# Altium footprint library SHEET25.PcbLib: 48 footprints (part 2 of 3)
Each footprint in its own frame and in the unit in brackets; x right, y up, seen from the top. Pads: shape width x height; smd on the part's side, far side on the other; paste and mask are expansions set on the pad; w line width, h text height; cw(c..) or ccw(c..) is an arc to the next point about the centre after c.
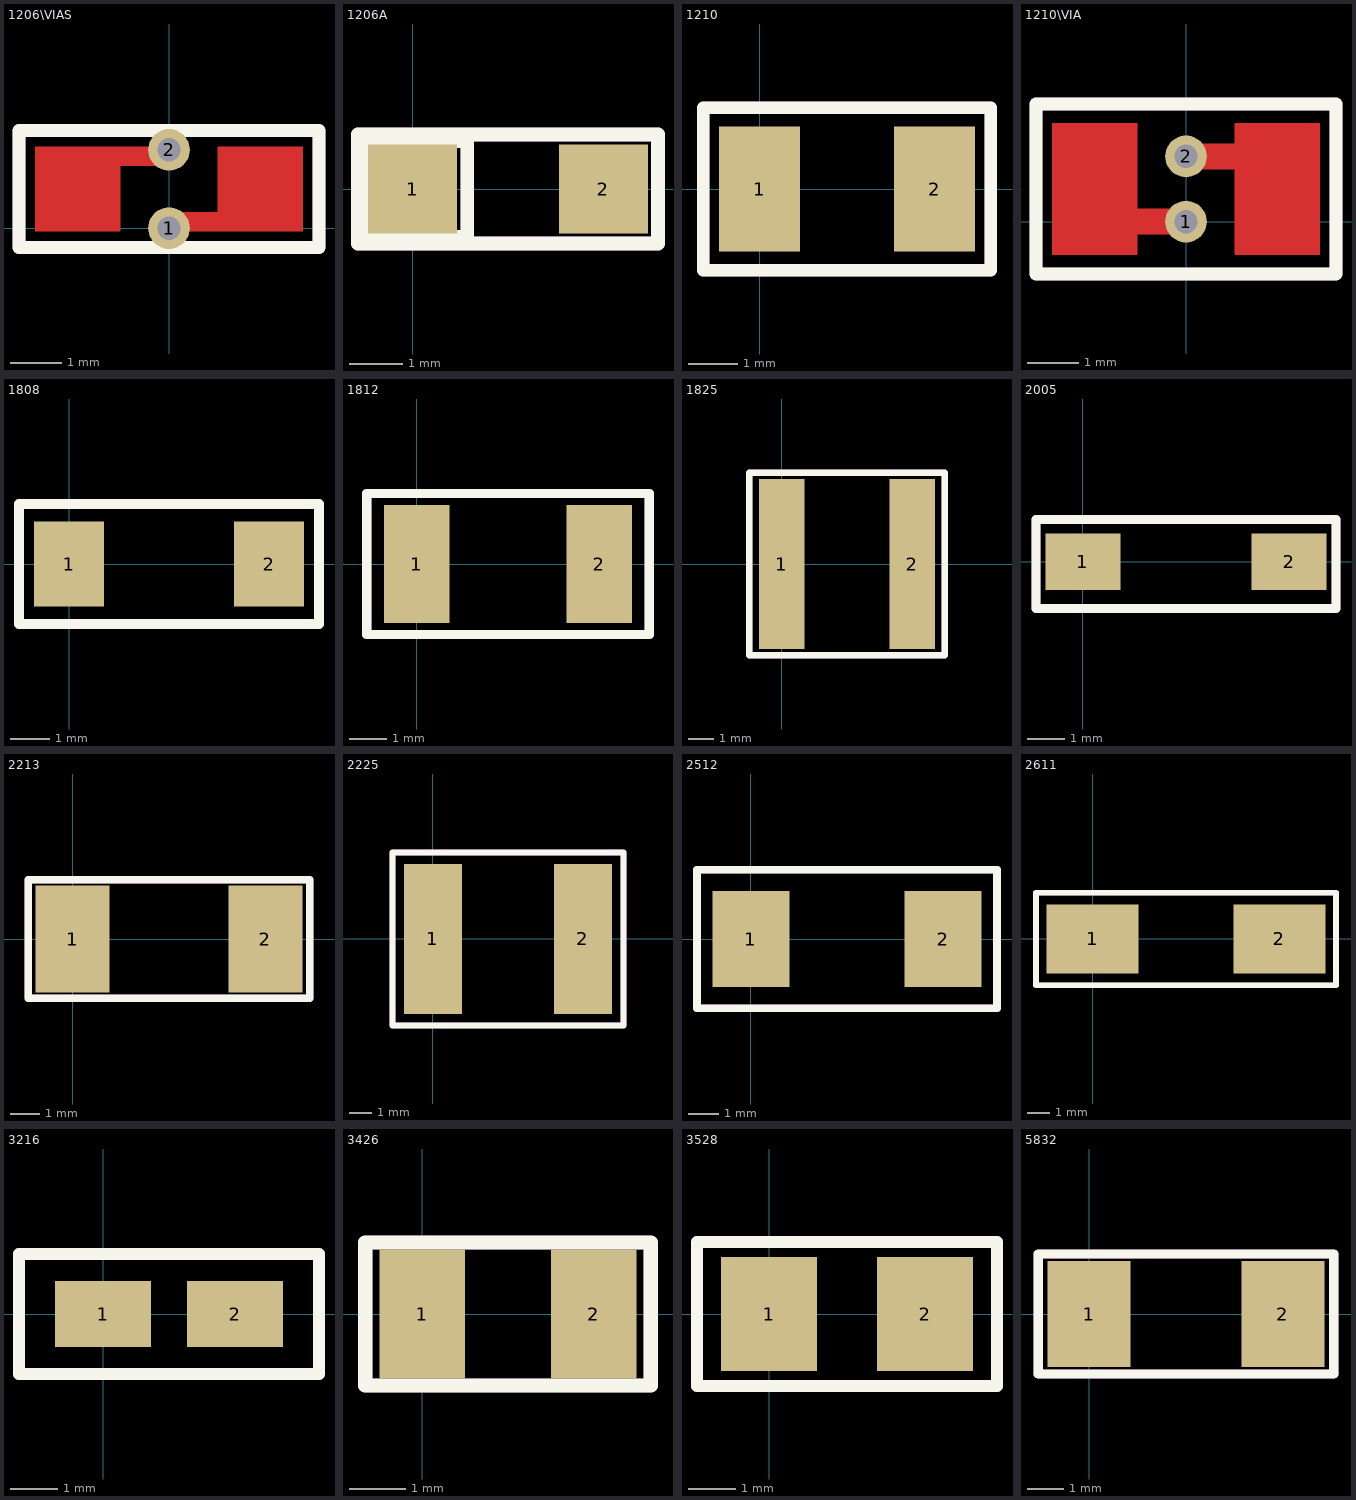
[diagram p1: the footprints below, top view; thin cyan lines are the x and y axes]

## 1206\VIAS [mil]
pads (2):
  round 32 hole 18: 1(0,0) 2(0,60)
Top Layer:
  region: -37.62,62.38 -37.46,62 -37.46,-2 -37.62,-2.38 -38,-2.54 -102,-2.54 -102.38,-2.38 -102.54,-2 -102.54,62 -102.38,62.38 -102,62.54 -38,62.54
  region: 102.38,62.38 102.54,62 102.54,-2 102.38,-2.38 102,-2.54 38,-2.54 37.62,-2.38 37.46,-2 37.46,62 37.62,62.38 38,62.54 102,62.54
  lines w15: -50,55 0,55 ; 0,5 50,5
Top Overlay:
  lines w10: -115,-15 -115,75 115,75 115,-15 -115,-15
  text ".Designator" at -78,75 h60
Top Paste:
  region: -37.62,62.38 -37.46,62 -37.46,-2 -37.62,-2.38 -38,-2.54 -102,-2.54 -102.38,-2.38 -102.54,-2 -102.54,62 -102.38,62.38 -102,62.54 -38,62.54
  region: 102.38,62.38 102.54,62 102.54,-2 102.38,-2.38 102,-2.54 38,-2.54 37.62,-2.38 37.46,-2 37.46,62 37.62,62.38 38,62.54 102,62.54
Top Solder:
  region: -35.7,64.3 -34.75,62 -34.75,-2 -35.7,-4.3 -38,-5.25 -102,-5.25 -104.3,-4.3 -105.25,-2 -105.25,62 -104.3,64.3 -102,65.25 -38,65.25
  region: 104.3,64.3 105.25,62 105.25,-2 104.3,-4.3 102,-5.25 38,-5.25 35.7,-4.3 34.75,-2 34.75,62 35.7,64.3 38,65.25 102,65.25
Mechanical 1:
  lines w10: -115,-15 -115,75 115,75 115,-15 -115,-15
  text ".Designator" at -78,75 h60
  text ".Pattern" at -125,-120 h60

## 1206A [mil]
pads (2):
  rect 65x65 smd: 1(0,0) 2(140,0)
Top Overlay:
  lines w10: -40,-40 -40,40 180,40 180,-40 -40,-40 ; -35,-35 -35,35 40,35 40,-35 -35,-35
  text ".Designator" at -35,75 h60
Mechanical 1:
  lines w10: -40,-40 -40,40 180,40 180,-40 -40,-40 ; -35,-35 -35,35 40,35 40,-35 -35,-35
  text ".Designator" at -35,75 h60
  text ".Pattern" at -55,-150 h60

## 1210 [mil]
pads (2):
  rect 65x100 smd: 1(0,0) 2(140,0)
Top Overlay:
  lines w10: -45,-65 185,-65 185,65 -45,65 -45,-65
  text ".Designator" at -53,100 h60
Mechanical 1:
  lines w10: -45,-65 -45,65 185,65 185,-65 -45,-65
  text ".Designator" at -53,100 h60
  text ".Pattern" at -30,-175 h60

## 1210\VIA [mil]
pads (2):
  round 32 hole 18: 1(0,0) 2(0,50)
Top Layer:
  region: 102.38,75.38 102.54,75 102.54,-25 102.38,-25.38 102,-25.54 38,-25.54 37.62,-25.38 37.46,-25 37.46,75 37.62,75.38 38,75.54 102,75.54
  region: -37.62,75.38 -37.46,75 -37.46,-25 -37.62,-25.38 -38,-25.54 -102,-25.54 -102.38,-25.38 -102.54,-25 -102.54,75 -102.38,75.38 -102,75.54 -38,75.54
  lines w20: -75,25 -75,0 0,0 ; 0,50 75,50 75,25
Top Overlay:
  lines w10: -115,-40 -115,90 115,90 115,-40 -115,-40
  text ".Designator" at -25,175 h60
Top Paste:
  region: 102.38,75.38 102.54,75 102.54,-25 102.38,-25.38 102,-25.54 38,-25.54 37.62,-25.38 37.46,-25 37.46,75 37.62,75.38 38,75.54 102,75.54
  region: -37.62,75.38 -37.46,75 -37.46,-25 -37.62,-25.38 -38,-25.54 -102,-25.54 -102.38,-25.38 -102.54,-25 -102.54,75 -102.38,75.38 -102,75.54 -38,75.54
Top Solder:
  region: 104.3,77.3 105.25,75 105.25,-25 104.3,-27.3 102,-28.25 38,-28.25 35.7,-27.3 34.75,-25 34.75,75 35.7,77.3 38,78.25 102,78.25
  region: -35.7,77.3 -34.75,75 -34.75,-25 -35.7,-27.3 -38,-28.25 -102,-28.25 -104.3,-27.3 -105.25,-25 -105.25,75 -104.3,77.3 -102,78.25 -38,78.25
Mechanical 1:
  lines w10: -115,-40 -115,90 115,90 115,-40 -115,-40
  text ".Designator" at -25,175 h60
  text ".Pattern" at -125,-150 h60

## 1808 [mil]
pads (2):
  rect 70x85 smd: 1(0,0) 2(200,0)
Top Overlay:
  lines w10: -50,-60 -50,60 250,60 250,-60 -50,-60
  text ".Designator" at 10,75 h60
Mechanical 1:
  lines w10: -50,-60 -50,60 250,60 250,-60 -50,-60
  text ".Pattern" at -25,-175 h60
  text ".Designator" at 10,75 h60

## 1812 [mil]
pads (2):
  rect 70x125 smd: 1(0,0) 2(194,0)
Top Overlay:
  lines w10: -53,-75 -53,75 247,75 247,-75 -53,-75
  text ".Designator" at -45,100 h60
Mechanical 1:
  lines w10: -53,-75 -53,75 247,75 247,-75 -53,-75
  text ".Designator" at -45,100 h60
  text ".Pattern" at -28,-175 h60

## 1825 [mil]
pads (2):
  rect 70x260 smd: 1(0,0) 2(200,0)
Top Overlay:
  lines w10: -50,-140 -50,140 250,140 250,-140 -50,-140
  text ".Designator" at -20,100 h60
Mechanical 1:
  lines w10: -50,-140 -50,140 250,140 250,-140 -50,-140
  text ".Designator" at -20,100 h60
  text ".Pattern" at -25,-250 h60

## 2005 [mil]
pads (2):
  rect 80x60 smd: 1(0,0) 2(220,0)
Top Overlay:
  lines w10: -50,-50 -50,45 270,45 270,-50 -50,-50
  text ".Designator" at -45,175 h60
Mechanical 1:
  lines w10: -50,-50 270,-50 270,45 -50,45 -50,-50
  text ".Designator" at -45,175 h60
  text ".Pattern" at 10,-175 h60

## 2213 [mil]
pads (2):
  rect 100x145 smd: 1(0,0) 2(260,0)
Top Overlay:
  lines w10: -60,-80 -60,80 320,80 320,-80 -60,-80
  text ".Designator" at -50,125 h60
Mechanical 1:
  lines w10: -60,-80 -60,80 320,80 320,-80 -60,-80
  text ".Designator" at -50,125 h60
  text ".Pattern" at 30,-175 h60

## 2225 [mil]
pads (2):
  rect 100x260 smd: 1(0,0) 2(260,0)
Top Overlay:
  lines w10: -70,-150 -70,150 330,150 330,-150 -70,-150
  text ".Designator" at -88,100 h60
Mechanical 1:
  lines w10: -70,-150 330,-150 330,150 -70,150 -70,-150
  text ".Designator" at -88,100 h60
  text ".Pattern" at 5,-275 h60

## 2512 [mil]
pads (2):
  rect 100x125 smd: 1(0,0) 2(250,0)
Top Overlay:
  lines w10: -70,-90 -70,90 320,90 320,-90 -70,-90
  text ".Designator" at -95,75 h60
Mechanical 1:
  lines w10: -70,-90 -70,90 320,90 320,-90 -70,-90
  text ".Pattern" at 25,-225 h60
  text ".Designator" at -95,75 h60

## 2611 [mil]
pads (2):
  rect 160x120 smd: 1(0,0) 2(324,0)
Top Overlay:
  lines w10: -98,-80 -98,80 422,80 422,-80 -98,-80
  text ".Designator" at -40,75 h60
Mechanical 1:
  lines w10: -98,-80 -98,80 422,80 422,-80 -98,-80
  text ".Designator" at -40,75 h60
  text ".Pattern" at 62,-175 h60

## 3216 [mil]
pads (2):
  rect 80x55 smd: 1(0,0) 2(110,0)
Top Overlay:
  lines w10: -70,-50 -70,50 180,50 180,-50 -70,-50
  text ".Designator" at -60,75 h60
Mechanical 1:
  lines w10: -70,-50 -70,50 180,50 180,-50 -70,-50
  text ".Designator" at -60,75 h60
  text ".Pattern" at -45,-150 h60

## 3426 [mil]
pads (2):
  rect 60x90 smd: 1(0,0) 2(120,0)
Top Overlay:
  lines w10: -40,-50 160,-50 160,50 -40,50 -40,-50
  text ".Designator" at -40,75 h60
Mechanical 1:
  lines w10: -40,-50 -40,50 160,50 160,-50 -40,-50
  text ".Designator" at -40,75 h60
  text ".Pattern" at -40,-175 h60

## 3528 [mil]
pads (2):
  rect 80x95 smd: 1(0,0) 2(130,0)
Top Overlay:
  lines w10: -60,-60 -60,60 190,60 190,-60 -60,-60
  text ".Designator" at -25,125 h60
Mechanical 1:
  lines w10: -60,-60 190,-60 190,60 -60,60 -60,-60
  text ".Designator" at -25,125 h60
  text ".Pattern" at -35,-175 h60

## 5832 [mil]
pads (2):
  rect 90x115 smd: 1(0,0) 2(210,0)
Top Overlay:
  lines w10: -55,-65 -55,65 265,65 265,-65 -55,-65
  text ".Designator" at -55,75 h60
Mechanical 1:
  lines w10: -55,-65 265,-65 265,65 -55,65 -55,-65
  text ".Designator" at -55,75 h60
  text ".Pattern" at 5,-175 h60